# EAGLE library part MAX5419 (library CalvEngIO-DigitalIC)
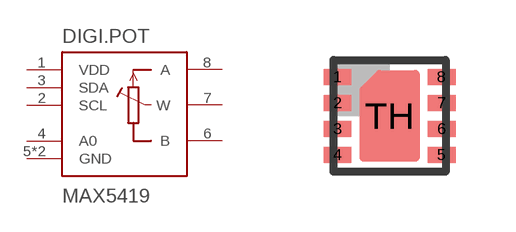
[diagram p3: symbol with the pads of TDFN8-3X3MM; footprint TDFN8-3X3MM]

Designator prefix DIGI.POT

## MAX5419-THERM  [TDFN8-3X3MM]
1  VDD
2  SCL
3  SDA
4  A0
5  GND
6  B
7  W
8  A
TH  GND

## MAX5419-NO.THERM  [TDFN8-3X3MM]
1  VDD
2  SCL
3  SDA
4  A0
5  GND
6  B
7  W
8  A

## Footprint TDFN8-3X3MM (pad centres in mm)
TDFN 8 pol. 3x3 mm Source: Data sheet <http://datasheets.maxim-ic.com/en/ds/MAX8559.pdf>
smd 0.7 x 0.4: 1 -1.3,0.975; 2 -1.3,0.325; 3 -1.3,-0.325; 4 -1.3,-0.975; 5 1.3,-0.975; 6 1.3,-0.325; 7 1.3,0.325; 8 1.3,0.975
smd 1 x 1: TH 0,0